# EAGLE library part 87340-18 (library untitled)
RECEPTACAL
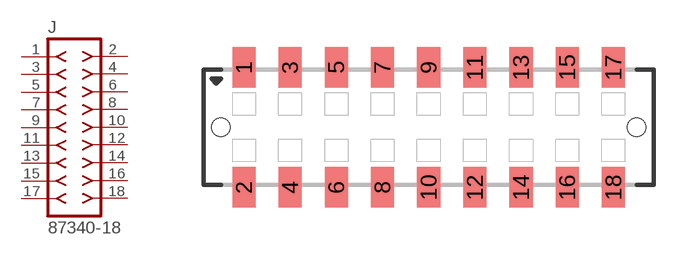
[diagram p233: symbol with the pads of 87340-18; footprint 87340-18]

Designator prefix J

## 87340-18  [87340-18]
1  1  pas
2  2  pas
3  3  pas
4  4  pas
5  5  pas
6  6  pas
7  7  pas
8  8  pas
9  9  pas
10  10  pas
11  11  pas
12  12  pas
13  13  pas
14  14  pas
15  15  pas
16  16  pas
17  17  pas
18  18  pas

## Footprint 87340-18 (pad centres in mm)
RECEPTACAL SMD Dual Row, Vertical, Low Profile
smd 1 x 1.75: 1 -8,2.6; 2 -8,-2.6; 3 -6,2.6; 4 -6,-2.6; 5 -4,2.6; 6 -4,-2.6; 7 -2,2.6; 8 -2,-2.6; 9 0,2.6; 10 0,-2.6; 11 2,2.6; 12 2,-2.6; 13 4,2.6; 14 4,-2.6; 15 6,2.6; 16 6,-2.6; 17 8,2.6; 18 8,-2.6
hole 0.8 at -9,0
hole 0.8 at 9,0